# EAGLE library part MPU6050 (library MPU6050)
Is the world’s first integrated 6-axis MotionTracking device that combines a 3-axis gyroscope, 3-axis accelerometer, and a Digital Motion Processor™ (DMP) all in a small 4x4x0.9mm Package.
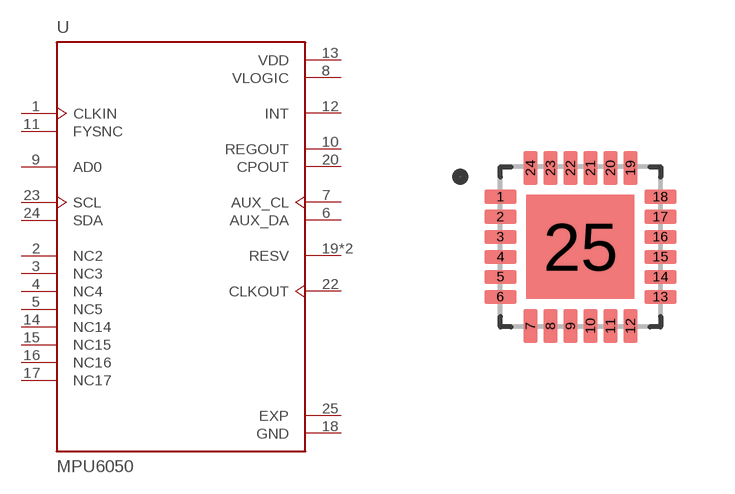
[diagram p0: symbol with the pads of IC_MPU6050; footprint IC_MPU6050]

Designator prefix U

## MPU6050 (Availability: Unavailable; Description: MPU-6050 - Accelerometer, Gyroscope, 3 Axis Sensor Evaluation Board; MF: TDK InvenSense; MP: MPU6050; Package: VFQFN-24 TDK InvenSense; Price: None)  [IC_MPU6050]
1  CLKIN  in
2  NC2  nc
3  NC3  nc
4  NC4  nc
5  NC5  nc
6  AUX_DA
7  AUX_CL  out
8  VLOGIC  pwr
9  AD0  in
10  REGOUT  out
11  FYSNC  in
12  INT  out
13  VDD  pwr
14  NC14  nc
15  NC15  nc
16  NC16  nc
17  NC17  nc
18  GND  pwr
19  RESV
20  CPOUT  out
21  RESV
22  CLKOUT  out
23  SCL  in
24  SDA
25  EXP  pwr

## Footprint IC_MPU6050 (pad centres in mm)
smd 0.8 x 0.35: 1 -2,1.25; 2 -2,0.75; 3 -2,0.25; 4 -2,-0.25; 5 -2,-0.75; 6 -2,-1.25; 13 2,-1.25; 14 2,-0.75; 15 2,-0.25; 16 2,0.25; 17 2,0.75; 18 2,1.25
smd 0.35 x 0.85: 7 -1.25,-1.975; 8 -0.75,-1.975; 9 -0.25,-1.975; 10 0.25,-1.975; 11 0.75,-1.975; 12 1.25,-1.975; 19 1.25,1.975; 20 0.75,1.975; 21 0.25,1.975; 22 -0.25,1.975; 23 -0.75,1.975; 24 -1.25,1.975
smd 2.7 x 2.6: 25 0,0